# EAGLE library part HANRUN (library PowerTechLIB2)
HANRUN
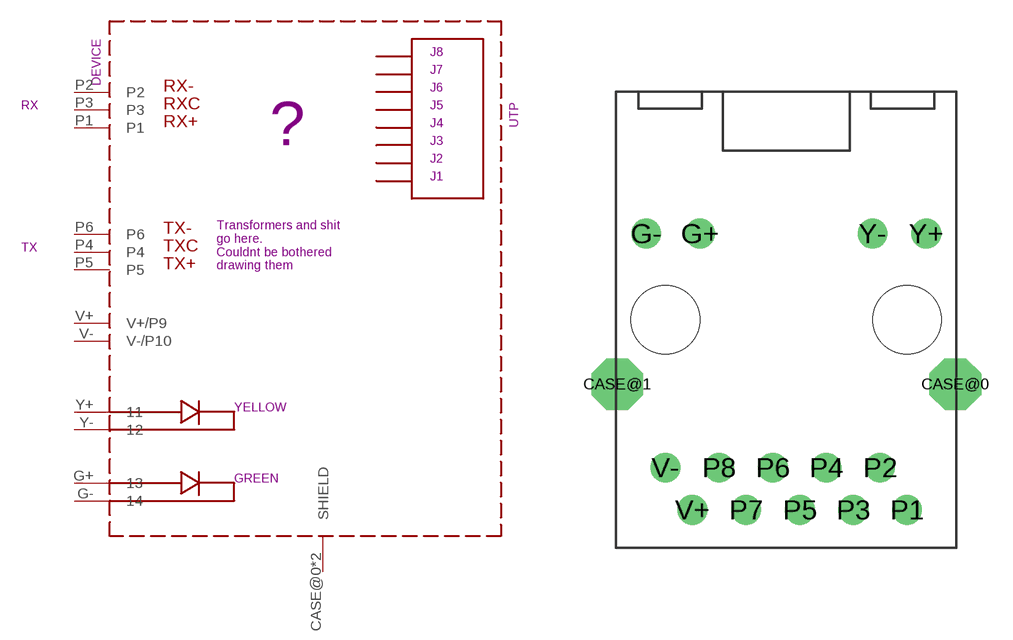
[diagram p11: symbol with the pads of HY931147C; footprint HY931147C]

Designator prefix RJ45-

## HANRUN  [HY931147C]
CASE@0  SHIELD
CASE@1  SHIELD
G+  13
G-  14
P1  P1
P2  P2
P3  P3
P4  P4
P5  P5
P6  P6
V+  V+/P9
V-  V-/P10
Y+  11
Y-  12

## Footprint HY931147C (pad centres in mm)
RJ45 with pulse transformer
drill 1.63 octagon: CASE@0 8,-3.05; CASE@1 -8,-3.05
drill 0.9: G+ -4.085,4.08; G- -6.625,4.08; P1 5.72,-9; P2 4.44,-7; P3 3.18,-9; P4 1.9,-7; P5 0.64,-9; P6 -0.64,-7; P7 -1.9,-9; P8 -3.18,-7; V+ -4.44,-9; V- -5.72,-7; Y+ 6.625,4.08; Y- 4.085,4.08
hole 3.25 at -5.715,0
hole 3.25 at 5.715,0